# Altium integrated library UWB_STM32.IntLib: 28 symbols
Pins are listed as number, name and electrical type; pins without a type are passive.

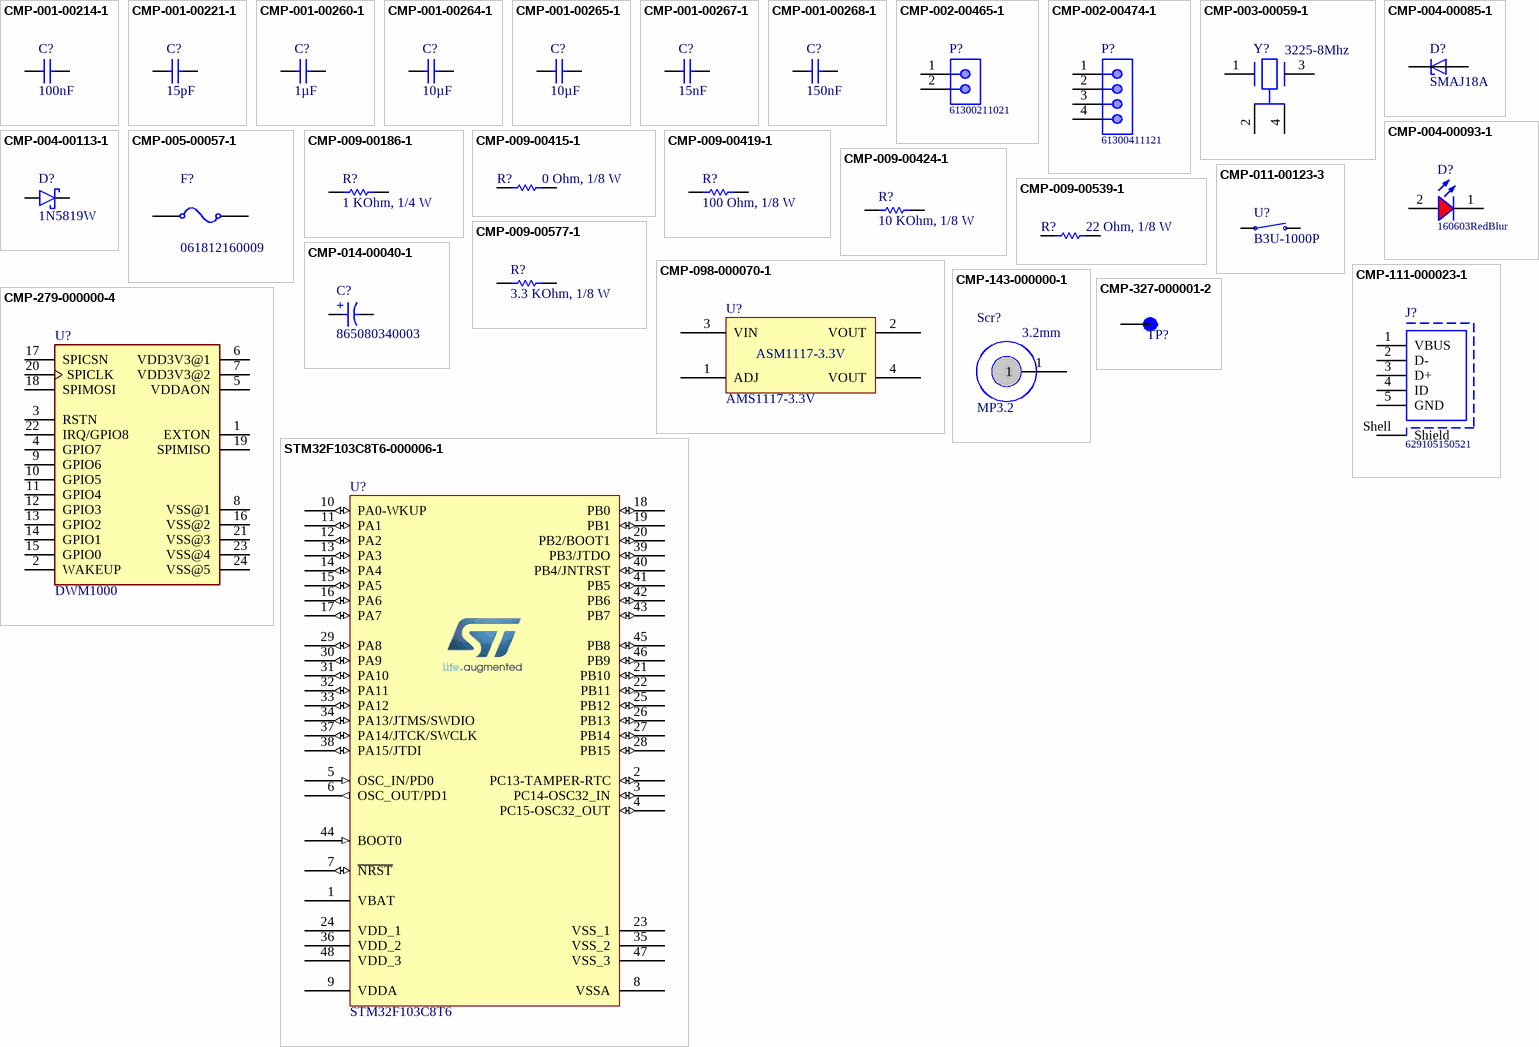
[diagram p0: symbols CMP-001-00214-1 to STM32F103C8T6-000006-1]

## CMP-001-00214-1
designator C?, comment value 100nF  (hidden comment: 0106031041050)
CAP, size 0603, 100 nF, 50 VDC; Manufacture SN: CGA3E3X8R1H104K080AE; Manufacture Name: TDK; Tolerance: 10%; Voltage Rating DC: 50 VDC; Supplier 2 Name: Digi-Key; Pins: 2; Supplier 3 Name: thegioiic; Design Item ID: 0106031041050; Supplier 1 Name: Mouser; Supplier 1 URL: https://www.mouser.com/ProductDetail/TDK/CGA3E3X8R1H104K080AE?qs=nQSIdc08i%252Bd8g3IRRgU2bw%3D%3D&utm_source=mouser-refine-download&utm_medium=file&utm_campaign=CGA3E3X8R1H104K080AE&utm_content=TDK; Size: 0603; Supplier 2 URL: https://www.digikey.com/en/products/detail/tdk-corporation/cga3e3x8r1h104k080ae/5809262; Operating Temperature: -55 to +125degC; Packaging: Tape and Reel; Source: Capacitor_0603_10_percent.SchLib; Supplier 1 SN: 810-CGA3E3X8R1H104KA; Supplier 3 SN: N/A; Supplier 2 SN: 445-173697-2-ND; Mounting Technology: SMT; Supplier 3 URL: N/A; Component Type: Standard; Component Type: Altium_Ceramic_Cap
footprint CAP_0603
pins: 1, 2

## CMP-001-00221-1
designator C?, comment value 15pF  (hidden comment: 0106031500550)
CAP, size 0603, 15 pF, 50 VDC; Manufacture SN: CGA3E2NP01H150J080AA; Manufacture Name: TDK; Tolerance: 5%; Voltage Rating DC: 50 VDC; Supplier 2 Name: Digi-Key; Supplier 2 SN: 445-12393-2-ND; Supplier 3 Name: thegioiic; Component Type: Standard; Size: 0603; Mounting Technology: SMT; Supplier 2 URL: https://www.digikey.com/en/products/detail/tdk-corporation/cga3e2np01h150j080aa/3949629; Supplier 1 Name: Mouser; Supplier 3 SN: N/A; Design Item ID: 0106031500550; Source: Capacitor_0603_5_percent.SchLib; Supplier 1 URL: https://www.mouser.com/ProductDetail/TDK/CGA3E2NP01H150J080AA?qs=xLDY6iXSiQaG7IFLqTiW9w%3D%3D&utm_source=mouser-refine-download&utm_medium=file&utm_campaign=CGA3E2NP01H150J080AA&utm_content=TDK; Operating Temperature: -55 to +125degC; Supplier 1 SN: 810-CGA3E2NP01H150JA; Supplier 3 URL: N/A; Packaging: Tape and Reel; Pins: 2; Component Type: Altium_Ceramic_Cap
footprint CAP_0603
pins: 1, 2

## CMP-001-00260-1
designator C?, comment value 1µF  (hidden comment: 0108051051016)
CAP, size 0805, 1 uF, 16 VDC; Manufacture SN: CGA4J2X7R1C105K125AA; Manufacture Name: TDK; Voltage Rating DC: 16 VDC; Tolerance: 10%; Component Type: Standard; Design Item ID: 0108051051016; Supplier 3 URL: N/A; Supplier 1 SN: 810-CGA4J2X7R1C105K; Mounting Technology: SMT; Supplier 2 URL: https://www.digikey.com/en/products/detail/tdk-corporation/cga4j2x7r1c105k125aa/2443167; Source: Capacitor_0805_10_percent.SchLib; Supplier 2 SN: 445-5689-2-ND; Supplier 3 Name: thegioiic; Supplier 1 URL: https://www.mouser.vn/ProductDetail/TDK/CGA4J2X7R1C105K125AA?qs=NRhsANhppD8sFjo%252B1TQuCQ%3D%3D&utm_source=mouser-refine-download&utm_medium=file&utm_campaign=CGA4J2X7R1C105K125AA&utm_content=TDK; Supplier 2 Name: Digi-Key; Supplier 3 SN: OEM; Pins: 2; Packaging: Tape and Reel; Size: 0805; Operating Temperature: -55 to +125degC; Supplier 1 Name: Mouser; Component Type: Altium_Ceramic_Cap
footprint CAP_0805
pins: 1, 2

## CMP-001-00264-1
designator C?, comment value 10µF  (hidden comment: 0108051061016)
CAP, size 0805, 10 uF, 16 VDC; Manufacture Name: TDK; Manufacture SN: CGA4J1X7S1C106K125AE; Tolerance: 10%; Voltage Rating DC: 16 VDC; Supplier 1 URL: https://www.mouser.vn/ProductDetail/TDK/CGA4J1X7S1C106K125AE?qs=nQSIdc08i%252Bda5YDbrVYncg%3D%3D&utm_source=mouser-refine-download&utm_medium=file&utm_campaign=CGA4J1X7S1C106K125AE&utm_content=TDK; Supplier 2 URL: https://www.digikey.com/en/products/detail/tdk-corporation/cga4j1x7s1c106k125ae/5809239; Design Item ID: 0108051061016; Supplier 1 SN: 810-CGA4J1X7S1C106KA; Mounting Technology: SMT; Supplier 3 SN: OEM; Pins: 2; Supplier 3 Name: thegioiic; Packaging: Tape and Reel; Size: 0805; Source: Capacitor_0805_10_percent.SchLib; Operating Temperature: -55 to +125degC; Supplier 2 SN: 445-173674-2-ND; Supplier 1 Name: Mouser; Supplier 3 URL: N/A; Supplier 2 Name: Digi-Key; Component Type: Standard; Component Type: Altium_Ceramic_Cap
footprint CAP_0805
pins: 1, 2

## CMP-001-00265-1
designator C?, comment value 10µF  (hidden comment: 0108051061025)
CAP, size 0805, 10 uF, 25 VDC; Manufacture SN: CGA4J1X7S1E106K125AE; Manufacture Name: TDK; Voltage Rating DC: 25 VDC; Tolerance: 10%; Source: Capacitor_0805_10_percent.SchLib; Mounting Technology: SMT; Supplier 3 SN: OEM; Size: 0805; Design Item ID: 0108051061025; Supplier 2 SN: 445-181411-2-ND; Supplier 1 URL: https://www.mouser.vn/ProductDetail/TDK/CGA4J1X7S1E106K125AE?qs=PqoDHHvF64%252BJvhmUzM2odA%3D%3D&utm_source=mouser-refine-download&utm_medium=file&utm_campaign=CGA4J1X7S1E106K125AE&utm_content=TDK; Supplier 3 Name: thegioiic; Pins: 2; Packaging: Tape and Reel; Supplier 2 Name: Digi-Key; Operating Temperature: -55 to +125degC; Supplier 1 SN: 810-CGA4J1X7S1E106K2; Component Type: Standard; Supplier 3 URL: N/A; Supplier 1 Name: Mouser; Supplier 2 URL: https://www.digikey.com/en/products/detail/tdk-corporation/cga4j1x7s1e106k125ae/9744777; Component Type: Altium_Ceramic_Cap
footprint CAP_0805
pins: 1, 2

## CMP-001-00267-1
designator C?, comment value 15nF  (hidden comment: 0108051531050)
CAP, size 0805, 15 nF, 50 VDC; Manufacture Name: TDK; Manufacture SN: CGA4F2NP01H153J085AA; Voltage Rating DC: 50 VDC; Tolerance: 5%; Operating Temperature: -55 to +125degC; Component Type: Standard; Supplier 2 SN: 445-12627-2-ND; Pins: 2; Supplier 2 Name: Digi-Key; Source: Capacitor_0805_5_percent.SchLib; Supplier 2 URL: https://www.digikey.com/en/products/detail/tdk-corporation/cga4f2np01h153j085aa/3949863; Design Item ID: 0108051531050; Size: 0805; Supplier 1 Name: Mouser; Mounting Technology: SMT; Supplier 3 Name: thegioiic; Supplier 3 URL: N/A; Packaging: Tape and Reel; Supplier 1 SN: 810-CGA4F2NP01H153JA; Supplier 3 SN: OEM; Supplier 1 URL: https://www.mouser.vn/ProductDetail/TDK/CGA4F2NP01H153J085AA?qs=xLDY6iXSiQbFHNeB91aULg%3D%3D&utm_source=mouser-refine-download&utm_medium=file&utm_campaign=CGA4F2NP01H153J085AA&utm_content=TDK; Component Type: Altium_Ceramic_Cap
footprint CAP_0805
pins: 1, 2

## CMP-001-00268-1
designator C?, comment value 150nF  (hidden comment: 0108051541050)
CAP, size 0805, 150 nF, 50 VDC; Manufacture Name: TDK; Manufacture SN: CGA4J2X7R1H154K125AD; Tolerance: 10%; Voltage Rating DC: 50 VDC; Mounting Technology: SMT; Supplier 3 SN: OEM; Source: Capacitor_0805_10_percent.SchLib; Supplier 2 URL: https://www.digikey.com/en/products/detail/tdk-corporation/cga4j2x7r1h154k125ad/3933662; Size: 0805; Supplier 2 Name: Digi-Key; Supplier 2 SN: 445-9929-2-ND; Component Type: Standard; Operating Temperature: -55 to +125degC; Supplier 1 URL: https://www.mouser.vn/ProductDetail/TDK/CGA4J2X7R1H154K125AD?qs=xLDY6iXSiQYlxmVq9lRXDA%3D%3D&utm_source=mouser-refine-download&utm_medium=file&utm_campaign=CGA4J2X7R1H154K125AD&utm_content=TDK; Supplier 1 SN: 810-CGA4J2X7R1H154KD; Packaging: Tape and Reel; Supplier 3 URL: N/A; Pins: 2; Design Item ID: 0108051541050; Supplier 3 Name: thegioiic; Supplier 1 Name: Mouser; Component Type: Altium_Ceramic_Cap
footprint CAP_0805
pins: 1, 2

## CMP-002-00465-1
designator P?, comment 61300211021
WR-PHD Pin Header, THT, pitch 2.54mm, Single Row, Angled, 2p; Manufacturer: Wurth Elektronik; Contact Resistance: 20mOhm; Working Voltage: 250VAC; Supply name 1: Mouser; Pin Number: 2; Rated Current: 3A; Withstanding Voltage: 500VAC; Manufacturer Part Number: 61300211021; Supplier 3 SN: N/A; ComponentLink3Description: Global Supply; Supplier 3 URL: N/A; Supplier 1 URL: https://www.mouser.vn/ProductDetail/Wurth-Elektronik/61300211021?qs=PhR8RmCirEbDcrt4YhPPpA%3D%3D; ComponentLink3URL: https://www.we-online.com/en/components/products/PHD_2_54_THT_ANGLED_PIN_HEADER_6130XX11021?sq=61300211021#61300211021; ComponentLink1Description: Manufacturer; ComponentLink1URL: http://www.we-online.de; Pitch: 2.54mm; Supplier 1 SN: 710-61300211021; Pins: 2; Design Item ID: 61300211021; Supplier 2 SN: N/A; Operating Temperature: -40 to +105degC; Orientation: Angled; ComponentLink2URL: https://www.we-online.com/catalog/datasheet/61300211021.pdf; Component Type: Standard; Source: WR-PHD_Pin Header_2.54mm.SchLib; Supplier 2 URL: N/A; Mounting Technology: THT; Row Number: Single; ComponentLink4Description: Global Supply; ComponentLink4URL: https://www.mouser.vn/ProductDetail/Wurth-Elektronik/61300211021?qs=PhR8RmCirEbDcrt4YhPPpA%3D%3D; ComponentLink2Description: Datasheet; Supplier 3 Name: thegioiic; Supplier 2 Name: Digi-Key; Gender: Pin Header; Supplier 1 Name: Mouser; Packaging: Bag; Published Date: May 2020; Component Type: Altium_Header
footprint 61300211021 (Pin Header, pitch 2.54 mm, THT, Angled, single row, 2p)
pins: 1, 2

## CMP-002-00474-1
designator P?, comment 61300411121
WR-PHD Pin Header, THT, pitch 2.54mm, Single Row, Vertical, 4p; Manufacturer: Wurth Elektronik; Rated Current: 3A; Contact Resistance: 20mOhm; Withstanding Voltage: 500VAC; Supply name 1: Mouser; Pin Number: 4; Working Voltage: 250VAC; Published Date: May 2020; Supplier 3 URL: N/A; Supplier 2 URL: N/A; Source: WR-PHD_Pin Header_2.54mm.SchLib; ComponentLink3Description: Global Supply; Operating Temperature: -40 to +105degC; ComponentLink1Description: Manufacturer; Component Type: Standard; ComponentLink1URL: http://www.we-online.de; ComponentLink2URL: https://www.we-online.com/catalog/datasheet/61300411121.pdf; ComponentLink2Description: Datasheet; ComponentLink4Description: Global Supply; ComponentLink4URL: https://www.mouser.vn/ProductDetail/Wurth-Elektronik/61300411121?qs=PhR8RmCirEYQcLLqXD8rAA%3D%3D; Pitch: 2.54mm; Mounting Technology: THT; Supplier 2 SN: N/A; Row Number: Single; Supplier 3 Name: thegioiic; Supplier 2 Name: Digi-Key; Supplier 1 URL: https://www.mouser.vn/ProductDetail/Wurth-Elektronik/61300311121?qs=PhR8RmCirEYxRWFJzNKsUw%3D%3D; Supplier 1 SN: 710-61300311121; Supplier 3 SN: N/A; Pins: 4; Orientation: Vertical; Gender: Pin Header; Packaging: Bag; ComponentLink3URL: https://www.we-online.com/en/components/products/PHD_2_54_THT_PIN_HEADER_6130XX11121?sq=61300411121#61300411121; Supplier 1 Name: Mouser; Design Item ID: 61300411121; Manufacturer Part Number: 61300411121; Component Type: Altium_Header
footprint 61300411121 (Pin Header, pitch 2.54 mm, THT, Vertical, single row, 4p)
pins: 1, 2, 3, 4

## CMP-003-00059-1
designator Y?, comment 3225-8Mhz
CRYSTAL 8MHZ 8PF SMD; Manufacturer: NDK; Manufacturer Part Number: NX3225SA-25.000M-STD-CRS-2; Automotive Grade: Grade 1; Tolerance: 15ppm; Esr: 100; Series: NX3225SA; Device Class L2: Crystals / Oscillators; Temperature Range High: 125°C; Category: Crys; Height: 0.6mm; Device Class L3: Crystals; Device Class L1: Passive Components; Load Capacitance: 8pF; Octopart: https://octopart.com/nx3225sa-25.000m-std-crs-2-ndk-51374293; Automotive: Yes; Temperature: -40°C to +125°C; Component Type: Standard; Source: Components - 28.03.25 - 23.15.SchLib; Digikey Description: CRYSTAL 40MHZ 8PF SMD; Design Item ID: CMP-200220-000002-1; Temperature Range Low: -40°C; Frequency: 8MHz; Case/Package: NX3225SA; RoHS: TRUE; Pins: 4; Lead Free: Yes; Component Type: Crystal
footprint FP-NX3225SA-MFG
pins: 1, 2 GND (power), 3, 4 GND (power)

## CMP-004-00085-1
designator D?, comment SMAJ18A
400W, 21.1V, 5%, Unidirectional, TVS; MF: Taiwan Semiconductor; SnapEDA_Link: https://www.snapeda.com/parts/SMAJ18A/taiwan/view-part/?ref=snap; Value: *; Component Type: Standard; Case/Package: SMA-2 Taiwan Semiconductor; Check_prices: https://www.snapeda.com/parts/SMAJ18A/taiwan/view-part/?ref=eda; Source: SMAJ18A.SchLib; Design Item ID: SMAJ18A; Pins: 2; MP: SMAJ18A; Component Type: TVS Diode
footprint DIOM4325X250N
pins: A, C

## CMP-004-00093-1
designator D?, comment 160603RedBlur
WL-SMCW SMT Mono-color Chip LED Blur, size 0603, Red, 2V, 140deg; Value: Red, 2V; ComponentLink2URL: https://www.mouser.vn/ProductDetail/ROHM-Semiconductor/CSL1901VW1?qs=vvQtp7zwQdNmrXZcE27xEA%3D%3D; Supplier 2 URL: https://www.digikey.com/en/products/detail/rohm-semiconductor/SML-D12U8WT86/1641799; Pins: 2; Supplier 2 Name: Digi-Key; ComponentLink1Description: Datasheet link; ComponentLink3URL: https://www.digikey.com/en/products/detail/rohm-semiconductor/SML-D12U8WT86/1641799; Supplier 1 Name: Mouser; Supplier 1 SN: 755-CSL1901VW1; Size: 0603; ComponentLink1URL: N/A; Source: WL-SMCW_0603.SchLib; ComponentLink3Description: Supplier 2 URL; Type: Blur; Design Item ID: 160603RedBlur; Component Type: Standard; ComponentLink4URL: N/A; Supplier 3 Name: ICDayRoi; Supplier 3 SN: N/A; Color: Red; Supplier 1 URL: https://www.mouser.vn/ProductDetail/ROHM-Semiconductor/CSL1901VW1?qs=vvQtp7zwQdNmrXZcE27xEA%3D%3D; Supplier 2 SN: 511-1580-2-ND; ComponentLink2Description: Supplier 1 URL; Supplier 3 URL: N/A; ComponentLink4Description: Supplier 3 URL; Component Type: Altium_LED
footprint WL-SMCW_0603_H=0.7mm (SMD Mono-color Chip LED, body 1.6x0.8mm)
pins: 1 K, 2 A

## CMP-004-00113-1
designator D?, comment 1N5819W
Source: 1N5819W.SchLib; Design Item ID: 1N5819W; Pins: 2; Component Type: Standard; Component Type: Schottky Diode
footprint 1N5819W
pins: A, K

## CMP-005-00057-1
designator F?, comment 061812160009
Resettable Fuse, Size 1812, 9V, 1.6A; Manufacturer: Littelfuse; Trip Current: 3.2A; Threshold Current: 100A; ComponentLink4URL: https://www.thegioiic.com/cau-chi-tu-phuc-hoi-1812-9v-1-6a; Supplier 1 URL: https://www.mouser.vn/ProductDetail/Littelfuse/miniSMDC160F-2?qs=F6FIpiMdEVaTu%252B225tqW3A%3D%3D; Supplier 2 Name: Digi-Key; ComponentLink2URL: https://www.mouser.vn/ProductDetail/Littelfuse/miniSMDC160F-2?qs=F6FIpiMdEVaTu%252B225tqW3A%3D%3D; Hold Current: 1.6A; Supplier 3 Name: thegioiic; Value: 9V, 1.6A; Source: Fuse_SMD.SchLib; Supplier 3 SN: N/A; ComponentLink3URL: https://www.digikey.com/en/products/detail/littelfuse-inc/MINISMDC160F-2/1045895?s=N4IgTCBcDaILYEsB2CDKBZAIgYQIwDYAGAMQFoIBdAXyA; ComponentLink1URL: https://www.littelfuse.com/~/media/electronics/product_specifications/resettable_ptcs/littelfuse_ptc_minismdc300f_2_product_specification.pdf.pdf; Design Item ID: 061812160009; ComponentLink1Description: Datasheet link; ComponentLink4Description: Supplier 3 URL; ComponentLink2Description: Supplier 1 URL; Mounting Technology: SMT/SMD; Supplier 1 SN: 650-MINISMDC160F-2; Size: 1812; Supplier 2 SN: MINISMDC160F-2TR-ND; Threshold Voltage: 9V; Component Type: Standard; ComponentLink3Description: Supplier 2 URL; Supplier 3 URL: https://www.thegioiic.com/cau-chi-tu-phuc-hoi-1812-9v-1-6a; Pins: 2; Supplier 2 URL: https://www.mouser.vn/ProductDetail/Littelfuse/miniSMDC160F-2?qs=F6FIpiMdEVaTu%252B225tqW3A%3D%3D; Supplier 1 Name: Mouser; Component Type: Altium_Fuse
footprint Fuse_SMD_1812 (Fuse SMD, size 1812)
pins: 0, 1

## CMP-009-00186-1
designator R?, comment value 1 KOhm, 1/4 W  (hidden comment: 0006031021)
RES, size 0603, 1 KOhm, 1/4 W; Manufacture  SN: OEM; Rated Power: 1/4 W; Resistance Tolerance: +/-1%; Supplier 1 SN: 71-RCS06031K00FKEA; ComponentLink4Description: Supplier 3 URL; ComponentLink2Description: Supplier 1 URL; Supplier 3 SN: N/A; Supplier 2 Name: Digi-Key; ComponentLink3Description: Supplier 2 URL; Pins: 2; ComponentLink4URL: N/A; Source: Resistor_0603.SchLib; ComponentLink3URL: https://www.digikey.com/en/products/detail/yageo/SR0603FR-7T1KL/9373103; Supplier 2 SN: YAG5829TR-ND YAG5829CT-ND YAG5829DKR-ND; Supplier 2 URL: https://www.digikey.com/en/products/detail/yageo/SR0603FR-7T1KL/9373103; Supplier 1 Name: Mouser; Component Type: Standard; ComponentLink2URL: N/A; Size: 0603; Supplier 1 URL: https://www.mouser.vn/ProductDetail/Vishay-Dale/RCS06031K00FKEA?qs=sGAEpiMZZMvdGkrng054t9clqp6gtJJdzI9PGMrTQi4RTIuHToNahw%3D%3D; Supplier 3 URL: N/A; Design Item ID: 0006031021; Mounting Technology: SMT; ComponentLink1URL: https://www.yageo.com/upload/media/product/productsearch/datasheet/rchip/PYu-SR_20105_RoHS_L_10.pdf; ComponentLink1Description: Datasheet link; Supplier 3 Name: thegioiic; Manufacture  Name: OEM; Component Type: Resistor
footprint resistor_0603
pins: 1, 2

## CMP-009-00415-1
designator R?, comment value 0 Ohm, 1/8 W  (hidden comment: 0008050001)
RES, size 0805, 0 Ohm, 1/8 W; Manufacture  Name: YAGEO; Manufacture  SN: RC0805FR-070RL; Rated Power: 1/8 W; Resistance Tolerance: +/-1%; ComponentLink1URL: N/A; Component Type: Standard; Mounting Technology: SMT; Source: Resistor_0805.SchLib; ComponentLink3URL: https://www.digikey.com/en/products/detail/yageo/rc0805fr-070rl/2827620; Supplier 3 Name: Thegioiic; Size: 0805; ComponentLink1Description: Datasheet link; Design Item ID: 0008050001; ComponentLink2Description: Supplier 1 URL; Supplier 2 Name: Digi-Key; Supplier 2 SN: 311-0.0CRTR-ND; Supplier 1 URL: https://www.mouser.com/ProductDetail/YAGEO/RC0805FR-070RL?qs=fRxXYNj8ftF6kXqh1XbZJQ%3D%3D; Supplier 2 URL: https://www.digikey.com/en/products/detail/yageo/rc0805fr-070rl/2827620; ComponentLink3Description: Supplier 2 URL; Pins: 2; ComponentLink2URL: https://www.mouser.com/ProductDetail/YAGEO/RC0805FR-070RL?qs=fRxXYNj8ftF6kXqh1XbZJQ%3D%3D; Supplier 1 Name: Mouser; Supplier 3 URL: https://www.thegioiic.com/dien-tro-0-ohm-0805-1-; ComponentLink4URL: https://www.thegioiic.com/dien-tro-0-ohm-0805-1-; Supplier 1 SN: 603-RC0805FR-070RL; ComponentLink4Description: Supplier 3 URL; Supplier 3 SN: N/A; Component Type: Resistor
footprint RESISTOR_0805 (Chip Resistor, 2-Leads, Body 2,00x1,20mm, IPC Medium Density)
pins: 1, 2

## CMP-009-00419-1
designator R?, comment value 100 Ohm, 1/8 W  (hidden comment: 0008051011)
RES, size 0805, 100 Ohm, 1/8 W; Manufacture  SN: CRCW0805100RFKEB; Manufacture  Name: Vishay Dale Thin Film; Resistance Tolerance: +/-1%; Rated Power: 1/8 W; ComponentLink2Description: Supplier 1 URL; Size: 0805; Supplier 3 Name: Thegioiic; ComponentLink2URL: https://www.mouser.vn/ProductDetail/Vishay-Dale/CRCW0805100RFKEB?qs=sGAEpiMZZMtlubZbdhIBIKpw3Cj3Rl3MFHVHXIgVmtw%3D; ComponentLink3URL: https://www.digikey.com/en/products/detail/vpg-foil-resistors/Y1624100R000F9R/6026579; Supplier 3 URL: https://www.thegioiic.com/dien-tro-100-ohm-0805-1-; Mounting Technology: SMT; ComponentLink1URL: https://media.digikey.com/pdf/Data%20Sheets/Vishay%20Resistors/VSMP_Series_Z_Series_DS.pdf; ComponentLink1Description: Datasheet link; Supplier 2 Name: Digi-Key; Supplier 2 SN: Y1624100R000F9R-ND; Supplier 2 URL: https://www.digikey.com/en/products/detail/vpg-foil-resistors/Y1624100R000F9R/6026579; Supplier 1 Name: Mouser; Design Item ID: 0008051011; ComponentLink4Description: Supplier 3 URL; ComponentLink3Description: Supplier 2 URL; Supplier 3 SN: N/A; Supplier 1 SN: 71-CRCW0805100RFKEB; Source: Resistor_0805.SchLib; ComponentLink4URL: https://www.thegioiic.com/dien-tro-100-ohm-0805-1-; Pins: 2; Component Type: Standard; Supplier 1 URL: https://www.mouser.vn/ProductDetail/Vishay-Dale/CRCW0805100RFKEB?qs=sGAEpiMZZMtlubZbdhIBIKpw3Cj3Rl3MFHVHXIgVmtw%3D; Component Type: Resistor
footprint RESISTOR_0805 (Chip Resistor, 2-Leads, Body 2,00x1,20mm, IPC Medium Density)
pins: 1, 2

## CMP-009-00424-1
designator R?, comment value 10 KOhm, 1/8 W  (hidden comment: 0008051035)
RES, size 0805, 10 KOhm, 1/8 W; Manufacture  SN: CRCW080510K0JNEAC; Manufacture  Name: Vishay Dale; Resistance Tolerance: +/-5%; Rated Power: 1/8 W; ComponentLink4URL: N/A; Supplier 3 SN: N/A; Supplier 1 SN: 71-CRCW080510K0JNEB; Source: Resistor_0805.SchLib; Supplier 3 URL: N/A; Supplier 3 Name: Thegioiic; ComponentLink2Description: Supplier 1 URL; ComponentLink4Description: Supplier 3 URL; Supplier 2 URL: https://www.digikey.com/en/products/detail/vishay-dale/CRCW080510K0JNEAC/7928585; ComponentLink3Description: Supplier 2 URL; Size: 0805; ComponentLink1Description: Datasheet link; Supplier 1 URL: https://www.mouser.vn/ProductDetail/Vishay-Dale/CRCW080510K0JNEB?qs=LOX6nxTstiZ5fn9YUdHx5A%3D%3D; Supplier 1 Name: Mouser; Pins: 2; Design Item ID: 0008051035; Supplier 2 SN: 541-4163-2-ND; Supplier 2 Name: Digi-Key; ComponentLink3URL: https://www.digikey.com/en/products/detail/vishay-dale/CRCW080510K0JNEAC/7928585; Component Type: Standard; ComponentLink2URL: https://www.mouser.vn/ProductDetail/Vishay-Dale/CRCW080510K0JNEB?qs=LOX6nxTstiZ5fn9YUdHx5A%3D%3D; Mounting Technology: SMT; ComponentLink1URL: https://www.vishay.com/docs/28773/crcwce3.pdf; Component Type: Resistor
footprint RESISTOR_0805 (Chip Resistor, 2-Leads, Body 2,00x1,20mm, IPC Medium Density)
pins: 1, 2

## CMP-009-00539-1
designator R?, comment value 22 Ohm, 1/8 W  (hidden comment: 0008052205)
RES, size 0805, 22 Ohm, 1/8 W; Manufacture  Name: Bourns; Manufacture  SN: CR0805-JW-200ELF; Rated Power: 1/8 W; Resistance Tolerance: +/-5%; Component Type: Standard; ComponentLink1Description: Datasheet link; ComponentLink4Description: Supplier 3 URL; ComponentLink4URL: https://www.thegioiic.com/dien-tro-20-ohm-0805-5-; Pins: 2; ComponentLink2URL: https://www.mouser.vn/ProductDetail/Bourns/CR0805-JW-200ELF?qs=wL7NMIHXUPkPRFW4oSYkFg%3D%3D; Mounting Technology: SMT; Size: 0805; Supplier 2 SN: CHP0805-JW-200ELFTR-ND - Tape & Reel (TR); Supplier 2 URL: https://www.digikey.com/en/products/detail/bourns-inc/CHP0805-JW-200ELF/9598606; Supplier 1 URL: https://www.mouser.vn/ProductDetail/Bourns/CR0805-JW-200ELF?qs=wL7NMIHXUPkPRFW4oSYkFg%3D%3D; Supplier 2 Name: Digi-Key; ComponentLink1URL: https://www.mouser.vn/datasheet/2/54/cr-1858361.pdf; Supplier 3 Name: Thegioiic; Supplier 3 SN: N/A; ComponentLink3URL: https://www.digikey.com/en/products/detail/bourns-inc/CHP0805-JW-200ELF/9598606; Supplier 1 SN: 652-CR0805JW-200ELF; ComponentLink2Description: Supplier 1 URL; Design Item ID: 0008052205; Supplier 1 Name: Mouser; ComponentLink3Description: Supplier 2 URL; Source: Resistor_0805.SchLib; Supplier 3 URL: https://www.thegioiic.com/dien-tro-20-ohm-0805-5-; Component Type: Resistor
footprint RESISTOR_0805 (Chip Resistor, 2-Leads, Body 2,00x1,20mm, IPC Medium Density)
pins: 1, 2

## CMP-009-00577-1
designator R?, comment value 3.3 KOhm, 1/8 W  (hidden comment: 0008053325)
RES, size 0805, 3.3 KOhm, 1/8 W; Manufacture  SN: ERJ-S06J332V; Manufacture  Name: Panasonic; Rated Power: 1/8 W; Resistance Tolerance: +/-5%; ComponentLink4Description: Supplier 3 URL; Supplier 2 SN: P3.3KATR-ND - Tape & Reel (TR); Supplier 1 SN: 667-ERJ-S06J332V; ComponentLink3Description: Supplier 2 URL; ComponentLink1URL: https://www.mouser.vn/datasheet/2/315/AOA0000C334-1314047.pdf; Supplier 3 Name: Thegioiic; Component Type: Standard; ComponentLink4URL: https://www.thegioiic.com/dien-tro-3-3-kohm-0805-5; ComponentLink3URL: https://www.digikey.com/en/products/detail/panasonic-electronic-components/ERJ-6GEYJ332V/83038; Supplier 1 Name: Mouser; Supplier 2 URL: https://www.digikey.com/en/products/detail/panasonic-electronic-components/ERJ-6GEYJ332V/83038; ComponentLink2Description: Supplier 1 URL; Pins: 2; Size: 0805; ComponentLink1Description: Datasheet link; Supplier 3 SN: N/A; Supplier 3 URL: https://www.thegioiic.com/dien-tro-3-3-kohm-0805-5; ComponentLink2URL: https://www.mouser.vn/ProductDetail/Panasonic/ERJ-S06J332V?qs=Lnc17S3XxqC89pwdWk%2FMHQ%3D%3D; Design Item ID: 0008053325; Mounting Technology: SMT; Supplier 2 Name: Digi-Key; Supplier 1 URL: https://www.mouser.vn/ProductDetail/Panasonic/ERJ-S06J332V?qs=Lnc17S3XxqC89pwdWk%2FMHQ%3D%3D; Source: Resistor_0805.SchLib; Component Type: Resistor
footprint RESISTOR_0805 (Chip Resistor, 2-Leads, Body 2,00x1,20mm, IPC Medium Density)
pins: 1, 2

## CMP-011-00123-3
designator U?, comment B3U-1000P
Switch Tactile N.O. SPST Round Button Gull Wing 0.05A 12VDC 1.5N SMD T/R; MP: B3U1000P; MF: Omron; Design Item ID: B3U-1000P; Value: *; Component Type: Standard; Check_prices: https://www.snapeda.com/parts/B3U1000P/Omron/view-part/?ref=eda; SnapEDA_Link: https://www.snapeda.com/parts/B3U1000P/Omron/view-part/?ref=snap; Pins: 2; Case/Package: None; Source: B3U-1000P.SchLib; Component Type: Button
footprint SODFL4025X160N
pins: 1, 2

## CMP-014-00040-1
designator C?, comment 865080340003
V-Chip, D4 x H5.5mm, 22uF, 16V; Manufacturer: Wurth Elektronik; Capacitance Tolerance: +/-20%; Leakage Current: 3.52uA; Endurance: 2000h; Ripple Current: 90mA; Dissipation Factor: 16%; Capacitance: 22µF; Height: 5.5mm; Supplier 2 Name: Digi-Key; Mount: Surface Mount; Supplier 1 URL: https://www.mouser.com/ProductDetail/Wurth-Elektronik/865080340003?qs=0KOYDY2FL2%252BowmC4S50IuQ%3D%3D; Operating Temperature Min: -55°C; Source: Al_Cap.SchLib; Component Type: Standard; Operating Temperature Max: 105°C; Supplier 2 URL: N/A; Supplier 2 SN: N/A; Supplier 1 Name: Mouser; Supplier 3 Name: thegioiic; Packaging: Tape and Reel; Supplier 3 SN: N/A; Diameter: 4mm; Supplier 3 URL: https://www.thegioiic.com/tu-nhom-smd-22uf-16v-4x5-4mm; Value: 22uF, 16V; Supplier 1 SN: 710-865080340003; Category: Aluminum Electrolytic Capacitors; Design Item ID: 865080340003; Rated Voltage (DC): 16V; Manufacturer Part Number: N/A; Pins: 2; Component Type: Altium_Alutinum_Cap
footprint WCAP-ASLI_D4H5.5 (Aluminium Electrolytic V-Chip SMT Capacitors, 4x5.5mm)
pins: 1 P, 2 N
text: +

## CMP-098-000070-1
designator U?, comment AMS1117-3.3V
AMS1117-3.3V, OUT 3.3V 1A.; Manufacturer: AMS; Voltage Input Maximum: 15V; Pad Count: 4; Current Output Maximum: 1A; Value: 3.3V, 1A; Supplier 2 Name: Digi-Key; Supplier 3 URL: https://www.thegioiic.com/ams1117-3-3v-ic-on-ap-3-3v-1a-sot-223; Pin Count: 4; ComponentLink2URL: N/A; ComponentLink2Description: Supplier 1 URL; ComponentLink1Description: Datasheet link; Supplier 1 Name: Mouser; Supplier 2 SN: N/A; Manufacturer Part Number: N/A; ComponentLink1URL: http://www.advanced-monolithic.com/pdf/ds1117.pdf; ComponentLink4URL: N/A; Supplier 3 SN: N/A; Supplier 3 Name: thegioiic; Supplier 2 URL: N/A; ComponentLink3URL: N/A; Supplier 1 SN: N/A; Mounting Technology: SMD; ComponentLink4Description: Supplier 3 URL; Component Type: Standard; Voltage Output: 3.3V; ComponentLink3Description: Supplier 2 URL; Design Item ID: AMS1117-3.3V; Supplier 1 URL: N/A; Current Input Maximum: N/A; Source: AMS_family.SchLib; Component Type: Altium_Power_Supply_IC
footprint AMS1117-3.3V SOT223 (SOT223, 4-Leads, Body 6.51x7.00mm, Pitch 2.29mm)
pins: 1 ADJ (power), 2 VOUT, 3 VIN, 4 VOUT (power)
text: ASM1117-3.3V

## CMP-111-000023-1
designator J?, comment 629105150521
Micro USB 2.0 Type B Receptacle WR-COM, Horizontal, SMT, with Pegs, High Current at Pin 1 & Pin 5; Contact Resistance: 30 mOhm; Rated Current: 3 A; Working Voltage: 30 VAC; ComponentLink2URL: N/A; Operating Temperature: -40 to 85 degC; Packaging: Tape and Reel; ComponentLink2Description: Supplier 1 URL; Supplier 2 URL: N/A; Source: USB Connectors WR-COM.SchLib; Supplier 1 Name: Mouser; Supplier 1 URL: https://www.mouser.vn/ProductDetail/Wurth-Elektronik/629105150521?qs=a9WhcLg8qCzXiH7kZP8GRQ%3D%3D; Value: Micro USB 2.0 Type B; ComponentLink1Description: Datasheet; ComponentLink1URL: https://katalog.we-online.de/em/datasheet/629105150521.pdf; Published Date: September 2018; Supplier 3 SN: N/A; Pin Count: 6; Connector Type: Micro USB 2.0 Type B; Design Item ID: 629105150521; Component Type: Standard; ComponentLink4URL: N/A; ComponentLink3Description: Supplier 2 URL; Supplier 2 SN: N/A; ComponentLink3URL: N/A; Orientation: Horizontal; Gender: Receptacle; ComponentLink4Description: Supplier 3 URL; Supplier 1 SN: 710-629105150521; Supplier 3 URL: N/A; Supplier 3 Name: thegioiic; Mounting Technology: SMT; Supplier 2 Name: Digi-Key; Part Number: 629105150521; Publisher: Wurth Elektronik; Manufacturer: Micro USB 2.0 Type B; Manufacturer Part Number: 629105150521; Component Type: Altium_USB
footprint 629105150521 (Micro USB 2.0 SMT Type B Horizontal 5 Contacts High Current)
pins: 1 VBUS, 2 D-, 3 D+, 4 ID, 5 GND, Shell Shield

## CMP-143-000000-1
designator Scr?, comment MP3.2
Component Type: Standard; Pin Count: 1; Source: MP_3P2.SchLib; Design Item ID: MP3.2; Component Type: Screws
footprint MP3.2
pins: 1
text: 3.2mm

## CMP-279-000000-4
designator U?, comment DWM1000
802.15.4 IR-UWB Transceiver Module 3.5GHz ~ 6.5GHz Integrated, Chip Surface Mount; MF: Decawave Limited; Price: None; Value: *; Availability: Unavailable; Source: SnapEDAsch.SchLib; SnapEDA_Link: https://www.snapeda.com/parts/DWM1000/Decawave%20Limited/view-part/327593/?ref=snap; Component Type: Standard; Package: Module Decawave; Design Item ID: DWM1000; MP: DWM1000; Pin Count: 24; Component Type: RF
footprint XCVR_DWM1000
pins: 1 EXTON, 2 WAKEUP, 3 RSTN, 4 GPIO7, 5 VDDAON, 6 VDD3V3@1, 7 VDD3V3@2, 8 VSS@1, 9 GPIO6, 10 GPIO5, 11 GPIO4, 12 GPIO3, 13 GPIO2, 14 GPIO1, 15 GPIO0, 16 VSS@2, 17 SPICSN, 18 SPIMOSI, 19 SPIMISO, 20 SPICLK, 21 VSS@3, 22 IRQ/GPIO8, 23 VSS@4, 24 VSS@5

## CMP-327-000001-2
designator TP?, comment Keystone_SMD  (value not drawn)
Test Point, Mini, SMT, Phos Bronze/Silver, 1000pc Tape & Reel; MP: 5019; MF: Keystone Electronics; Component Type: Standard; Value: *; Pin Count: 1; Package: NON STANDARD-1 Keystone; Design Item ID: 5019; Source: 5019.SchLib; Check_prices: https://www.snapeda.com/parts/5019/Keystone/view-part/?ref=eda; SnapEDA_Link: https://www.snapeda.com/parts/5019/Keystone/view-part/?ref=snap; Component Type: TestPoint
footprint KEYSTONE_5019
pins: TP

## STM32F103C8T6-000006-1
designator U?, comment STM32F103C8T6
ARM Microcontrollers - MCU 32BIT Cortex M3 64KB 20KB RAM 2X12 ADC; Manufacture SN: STM32F103C8T6TR; Manufacturer: STM; Manufacturer: STMicroelectronics; Pad count: 48; Value: STM32F103C8T6; Pins: 48; ComponentLink1URL: https://www.mouser.com/datasheet/2/389/stm32f103c8-1851025.pdf; Supplier 3 URL: https://www.thegioiic.com/stm32f103c8t6-32-bit-arm-cortex-m3-microcontroller-72mhz-64kb-flash-48-lqfp; Supplier 1 URL: https://www.mouser.com/ProductDetail/STMicroelectronics/STM32F103C8T6?qs=bhCVus9SdFtq6kqxsU5%2FDA%3D%3D; Supplier 1 Name: Mouser; Component Type: Standard; Part Number: STM32F103C8T6; ComponentLink2URL: https://www.mouser.com/ProductDetail/STMicroelectronics/STM32F103C8T6?qs=bhCVus9SdFtq6kqxsU5%2FDA%3D%3D; Source: STM32.SchLib; Supplier 2 URL: https://www.digikey.com/en/products/detail/stmicroelectronics/stm32f103c8t6tr/2122442; Supplier 3 SN: STM32F103C8T6; Supplier 2 SN: 497-17666-2-ND; ComponentLink1Description: Datasheet; Design Item ID: STM32F103C8T6; Supplier 1 SN: 511-STM32F103C8T6; ComponentLink2Description: Supplier 1 URL; Supplier 3 Name: thegioiic; Footprint name: LQFP48; ComponentLink4Description: Supplier 3 URL; ComponentLink3URL: 497-17666-2-ND; ComponentLink3Description: Supplier 2 URL; Supplier 2 Name: Digi-Key; ComponentLink4URL: https://www.thegioiic.com/stm32f103c8t6-32-bit-arm-cortex-m3-microcontroller-72mhz-64kb-flash-48-lqfp; Manufacturer Part Number: STM32F103C8T6; Component Type: Altium_MCU
footprint STM32F103C8T6 (TSQFP, 48-Leads, Body 7.00x7.00mm, Pitch 0.50mm, IPC Medium Density)
pins: 1 VBAT (power), 2 PC13-TAMPER-RTC (io), 3 PC14-OSC32_IN (io), 4 PC15-OSC32_OUT (io), 5 OSC_IN/PD0 (in), 6 OSC_OUT/PD1 (out), 7 ~{NRST} (io), 8 VSSA (power), 9 VDDA (power), 10 PA0-WKUP (io), 11 PA1 (io), 12 PA2 (io), 13 PA3 (io), 14 PA4 (io), 15 PA5 (io), 16 PA6 (io), 17 PA7 (io), 18 PB0 (io), 19 PB1 (io), 20 PB2/BOOT1 (io), 21 PB10 (io), 22 PB11 (io), 23 VSS_1 (power), 24 VDD_1 (power), 25 PB12 (io), 26 PB13 (io), 27 PB14 (io), 28 PB15 (io), 29 PA8 (io), 30 PA9 (io), 31 PA10 (io), 32 PA11 (io), 33 PA12 (io), 34 PA13/JTMS/SWDIO (io), 35 VSS_2 (power), 36 VDD_2 (power), 37 PA14/JTCK/SWCLK (io), 38 PA15/JTDI (io), 39 PB3/JTDO (io), 40 PB4/JNTRST (io), 41 PB5 (io), 42 PB6 (io), 43 PB7 (io), 44 BOOT0 (in), 45 PB8 (io), 46 PB9 (io), 47 VSS_3 (power), 48 VDD_3 (power)